# Altium footprint library PCB - CONNECTOR - AMPHENOL RJHSE5381.PcbLib: 1 footprints
Each footprint in its own frame and in the unit in brackets; x right, y up, seen from the top. Pads: shape width x height; smd on the part's side, far side on the other; paste and mask are expansions set on the pad; w line width, h text height; cw(c..) or ccw(c..) is an arc to the next point about the centre after c.
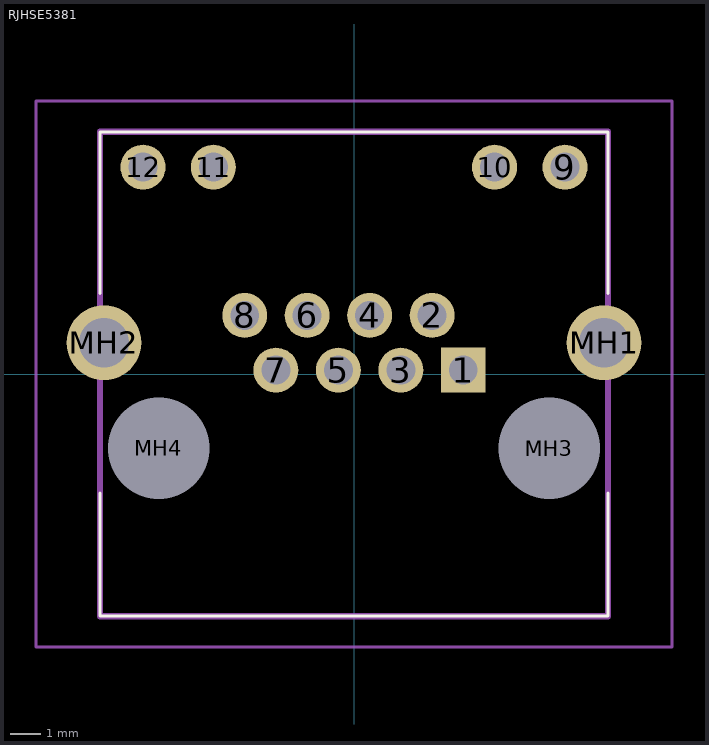
[diagram p0: the footprint, top view; thin cyan lines are the x and y axes]

## RJHSE5381 [mm]
pads (16):
  rect 1.462x1.462 hole 0.94: 1(3.552,0.129)
  round 1.462 hole 0.94: 2(2.538,1.909) 3(1.522,0.129) 4(0.507,1.909) 5(-0.507,0.129) 6(-1.522,1.909) 7(-2.538,0.129) 8(-3.552,1.909) 9(6.86,6.729) 10(4.57,6.729) 11(-4.57,6.729) 12(-6.86,6.729)
  round 2.43 hole 1.62: MH1(8.13,1.019) MH2(-8.13,1.019)
  round 1.65 hole 3.3 unplated: MH3(6.351,-2.411) MH4(-6.349,-2.411)
Top Overlay:
  lines w0.1: -8.256,-3.871 -8.256,-7.871 8.256,-7.871 8.256,-3.871 ; -8.256,2.629 -8.256,7.879 8.13,7.879 8.256,7.879 8.256,2.629
Top Assembly:
  lines w0.2: -8.256,-7.871 -8.256,7.879 8.256,7.879 8.256,-7.871 -8.256,-7.871
Top Courtyard:
  lines w0.1: -10.346,-8.871 -10.346,8.879 10.345,8.879 10.345,-8.871 -10.346,-8.871
Top Designator:
  text ".Designator" at -4.326,-6.681 h2.03
3D body "RJHSE-5381_V2.stp": height 14.74, standoff -4.03, extent -8.28,-8.509 8.28,7.93